# Altium schematic symbol library 3.7 - 高云系列.SchLib: 1 symbol
Pins are listed as number, name and electrical type; pins without a type are passive.

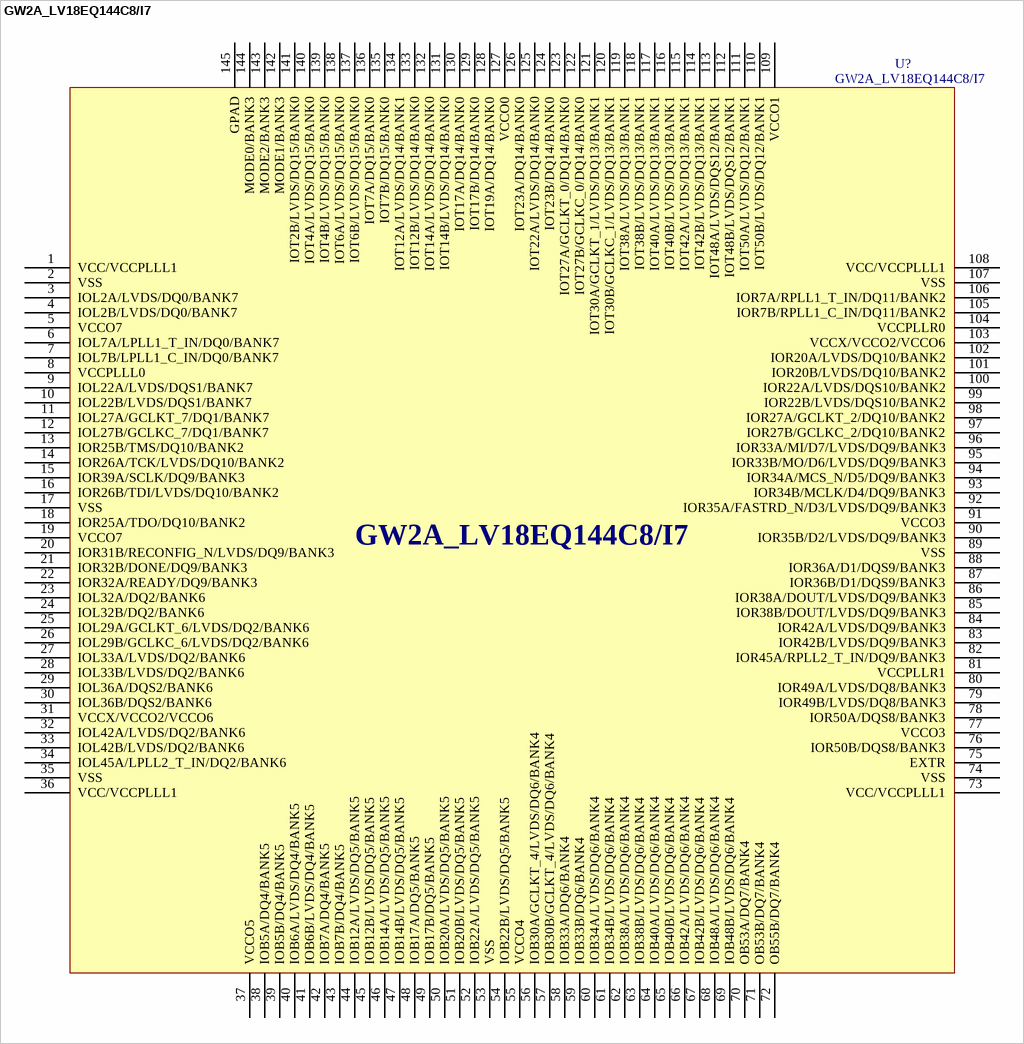
[diagram p0: symbol GW2A_LV18EQ144C8/I7]

## GW2A_LV18EQ144C8/I7
designator U?
IC
footprint EQFP144N3D (Thin QFP, 144-Leads, Body 20x20mm, Pitch 0.5mm, IPC Medium Density)
pins: 1 VCC/VCCPLLL1, 2 VSS, 3 IOL2A/LVDS/DQ0/BANK7, 4 IOL2B/LVDS/DQ0/BANK7, 5 VCCO7, 6 IOL7A/LPLL1_T_IN/DQ0/BANK7, 7 IOL7B/LPLL1_C_IN/DQ0/BANK7, 8 VCCPLLL0, 9 IOL22A/LVDS/DQS1/BANK7, 10 IOL22B/LVDS/DQS1/BANK7, 11 IOL27A/GCLKT_7/DQ1/BANK7, 12 IOL27B/GCLKC_7/DQ1/BANK7, 13 IOR25B/TMS/DQ10/BANK2, 14 IOR26A/TCK/LVDS/DQ10/BANK2, 15 IOR39A/SCLK/DQ9/BANK3, 16 IOR26B/TDI/LVDS/DQ10/BANK2, 17 VSS, 18 IOR25A/TDO/DQ10/BANK2, 19 VCCO7, 20 IOR31B/RECONFIG_N/LVDS/DQ9/BANK3, 21 IOR32B/DONE/DQ9/BANK3, 22 IOR32A/READY/DQ9/BANK3, 23 IOL32A/DQ2/BANK6, 24 IOL32B/DQ2/BANK6, 25 IOL29A/GCLKT_6/LVDS/DQ2/BANK6, 26 IOL29B/GCLKC_6/LVDS/DQ2/BANK6, 27 IOL33A/LVDS/DQ2/BANK6, 28 IOL33B/LVDS/DQ2/BANK6, 29 IOL36A/DQS2/BANK6, 30 IOL36B/DQS2/BANK6, 31 VCCX/VCCO2/VCCO6, 32 IOL42A/LVDS/DQ2/BANK6, 33 IOL42B/LVDS/DQ2/BANK6, 34 IOL45A/LPLL2_T_IN/DQ2/BANK6, 35 VSS, 36 VCC/VCCPLLL1, 37 VCCO5, 38 IOB5A/DQ4/BANK5, 39 IOB5B/DQ4/BANK5, 40 IOB6A/LVDS/DQ4/BANK5, 41 IOB6B/LVDS/DQ4/BANK5, 42 IOB7A/DQ4/BANK5, 43 IOB7B/DQ4/BANK5, 44 IOB12A/LVDS/DQ5/BANK5, 45 IOB12B/LVDS/DQ5/BANK5, 46 IOB14A/LVDS/DQ5/BANK5, 47 IOB14B/LVDS/DQ5/BANK5, 48 IOB17A/DQ5/BANK5, 49 IOB17B/DQ5/BANK5, 50 IOB20A/LVDS/DQ5/BANK5, 51 IOB20B/LVDS/DQ5/BANK5, 52 IOB22A/LVDS/DQ5/BANK5, 53 VSS, 54 IOB22B/LVDS/DQ5/BANK5, 55 VCCO4, 56 IOB30A/GCLKT_4/LVDS/DQ6/BANK4, 57 IOB30B/GCLKT_4/LVDS/DQ6/BANK4, 58 IOB33A/DQ6/BANK4, 59 IOB33B/DQ6/BANK4, 60 IOB34A/LVDS/DQ6/BANK4, 61 IOB34B/LVDS/DQ6/BANK4, 62 IOB38A/LVDS/DQ6/BANK4, 63 IOB38B/LVDS/DQ6/BANK4, 64 IOB40A/LVDS/DQ6/BANK4, 65 IOB40B/LVDS/DQ6/BANK4, 66 IOB42A/LVDS/DQ6/BANK4, 67 IOB42B/LVDS/DQ6/BANK4, 68 IOB48A/LVDS/DQ6/BANK4, 69 IOB48B/LVDS/DQ6/BANK4, 70 OB53A/DQ7/BANK4, 71 OB53B/DQ7/BANK4, 72 OB55B/DQ7/BANK4, 73 VCC/VCCPLLL1, 74 VSS, 75 EXTR, 76 IOR50B/DQS8/BANK3, 77 VCCO3, 78 IOR50A/DQS8/BANK3, 79 IOR49B/LVDS/DQ8/BANK3, 80 IOR49A/LVDS/DQ8/BANK3, 81 VCCPLLR1, 82 IOR45A/RPLL2_T_IN/DQ9/BANK3, 83 IOR42B/LVDS/DQ9/BANK3, 84 IOR42A/LVDS/DQ9/BANK3, 85 IOR38B/DOUT/LVDS/DQ9/BANK3, 86 IOR38A/DOUT/LVDS/DQ9/BANK3, 87 IOR36B/D1/DQS9/BANK3, 88 IOR36A/D1/DQS9/BANK3, 89 VSS, 90 IOR35B/D2/LVDS/DQ9/BANK3, 91 VCCO3, 92 IOR35A/FASTRD_N/D3/LVDS/DQ9/BANK3, 93 IOR34B/MCLK/D4/DQ9/BANK3, 94 IOR34A/MCS_N/D5/DQ9/BANK3, 95 IOR33B/MO/D6/LVDS/DQ9/BANK3, 96 IOR33A/MI/D7/LVDS/DQ9/BANK3, 97 IOR27B/GCLKC_2/DQ10/BANK2, 98 IOR27A/GCLKT_2/DQ10/BANK2, 99 IOR22B/LVDS/DQS10/BANK2, 100 IOR22A/LVDS/DQS10/BANK2, 101 IOR20B/LVDS/DQ10/BANK2, 102 IOR20A/LVDS/DQ10/BANK2, 103 VCCX/VCCO2/VCCO6, 104 VCCPLLR0, 105 IOR7B/RPLL1_C_IN/DQ11/BANK2, 106 IOR7A/RPLL1_T_IN/DQ11/BANK2, 107 VSS, 108 VCC/VCCPLLL1, 109 VCCO1, 110 IOT50B/LVDS/DQ12/BANK1, 111 IOT50A/LVDS/DQ12/BANK1, 112 IOT48B/LVDS/DQS12/BANK1, 113 IOT48A/LVDS/DQS12/BANK1, 114 IOT42B/LVDS/DQ13/BANK1, 115 IOT42A/LVDS/DQ13/BANK1, 116 IOT40B/LVDS/DQ13/BANK1, 117 IOT40A/LVDS/DQ13/BANK1, 118 IOT38B/LVDS/DQ13/BANK1, 119 IOT38A/LVDS/DQ13/BANK1, 120 IOT30B/GCLKC_1/LVDS/DQ13/BANK1, 121 IOT30A/GCLKT_1/LVDS/DQ13/BANK1, 122 IOT27B/GCLKC_0/DQ14/BANK0, 123 IOT27A/GCLKT_0/DQ14/BANK0, 124 IOT23B/DQ14/BANK0, 125 IOT22A/LVDS/DQ14/BANK0, 126 IOT23A/DQ14/BANK0, 127 VCCO0, 128 IOT19A/DQ14/BANK0, 129 IOT17B/DQ14/BANK0, 130 IOT17A/DQ14/BANK0, 131 IOT14B/LVDS/DQ14/BANK0, 132 IOT14A/LVDS/DQ14/BANK0, 133 IOT12B/LVDS/DQ14/BANK0, 134 IOT12A/LVDS/DQ14/BANK1, 135 IOT7B/DQ15/BANK0, 136 IOT7A/DQ15/BANK0, 137 IOT6B/LVDS/DQ15/BANK0, 138 IOT6A/LVDS/DQ15/BANK0, 139 IOT4B/LVDS/DQ15/BANK0, 140 IOT4A/LVDS/DQ15/BANK0, 141 IOT2B/LVDS/DQ15/BANK0, 142 MODE1/BANK3, 143 MODE2/BANK3, 144 MODE0/BANK3, 145 GPAD